# Altium footprint library CR2032V.PcbLib: 1 footprints
Each footprint in its own frame and in the unit in brackets; x right, y up, seen from the top. Pads: shape width x height; smd on the part's side, far side on the other; paste and mask are expansions set on the pad; w line width, h text height; cw(c..) or ccw(c..) is an arc to the next point about the centre after c.
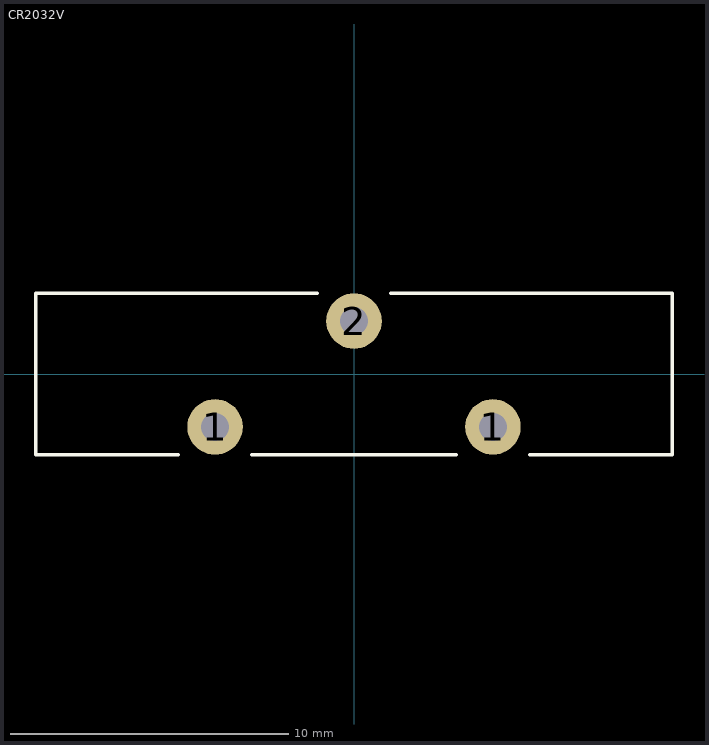
[diagram p0: the footprint, top view; thin cyan lines are the x and y axes]

## CR2032V [mm]
pads (3):
  round 2 hole 1: 1(-5,-1.905) 1(5,-1.905) 2(0,1.905)
Top Overlay:
  lines w0.127: -6.317,-2.9 -11.45,-2.9 -11.45,2.9 -1.317,2.9 ; -3.683,-2.9 3.683,-2.9 ; 1.317,2.9 11.45,2.9 11.45,-2.9 6.317,-2.9
3D body: height 23, standoff -2.44, extent -11.685,-2.896 11.735,2.904